# EAGLE library part IN100-Q1-R-RC1I (library IN100-Q1-R-RC1I)
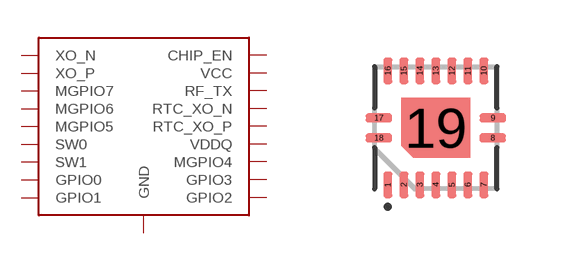
[diagram p0: symbol with the pads of QFN19P40_300X300X80L35X20T170X150N; footprint QFN19P40_300X300X80L35X20T170X150N]

Designator prefix IC

## IN100-Q1-R-RC1I (DATASHEET: https://static1.squarespace.com/static/615e15afbd5653295346d2a8/t/633b49bed645fb2ddc4d7cfd/1664829922881/IN100+datasheet.pdf; MANUFACTURER: INPLAY; VALUE: IN100-Q1-R-RC1I)  [QFN19P40_300X300X80L35X20T170X150N]
1  XO_N  nc
2  XO_P  nc
3  MGPIO7  nc
4  MGPIO6  nc
5  MGPIO5  nc
6  SW0  nc
7  SW1  nc
8  GPIO0  nc
9  GPIO1  nc
10  GPIO2  nc
11  GPIO3  nc
12  MGPIO4  nc
13  VDDQ  nc
14  RTC_XO_P  nc
15  RTC_XO_N  nc
16  RF_TX  nc
17  VCC  nc
18  CHIP_EN  nc
19  GND  nc

## Footprint QFN19P40_300X300X80L35X20T170X150N (pad centres in mm)
smd 0.22 x 0.66: 1 -1.2,-1.425; 2 -0.8,-1.425; 3 -0.4,-1.425; 4 0,-1.425; 5 0.4,-1.425; 6 0.8,-1.425; 7 1.2,-1.425; 10 1.2,1.425; 11 0.8,1.425; 12 0.4,1.425; 13 0,1.425; 14 -0.4,1.425; 15 -0.8,1.425; 16 -1.2,1.425
smd 0.66 x 0.22: 8 1.42,-0.25; 9 1.425,0.25; 17 -1.425,0.25; 18 -1.425,-0.25
smd 1.5 x 1.5: 19 0,0